# Altium schematic symbol library 581-M25-113L461.SchLib: 1 symbol
Pins are listed as number, name and electrical type; pins without a type are passive.

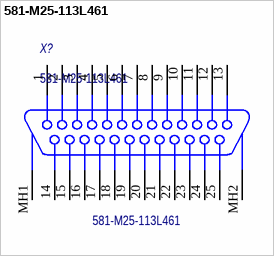
[diagram p0: symbol 581-M25-113L461]

## 581-M25-113L461
designator X?
Micro-D connector, male; Потребление, Вт: 0.0; Назначение: Micro-D connector, male; DataSheet: https://content.norcomp.net/rohspdfs/Micro-D/581-MYY-113L461.pdf; Наименование: 581-M25-113L461
footprint 581-M25-113L461 (Micro-D connector, male)
pins: 1, 2, 3, 4, 5, 6, 7, 8, 9, 10, 11, 12, 13, 14, 15, 16, 17, 18, 19, 20, 21, 22, 23, 24, 25, MH1, MH2